# Altium footprint library L-SPE-1206_MC_USB.PcbLib: 1 footprints
Each footprint in its own frame and in the unit in brackets; x right, y up, seen from the top. Pads: shape width x height; smd on the part's side, far side on the other; paste and mask are expansions set on the pad; w line width, h text height; cw(c..) or ccw(c..) is an arc to the next point about the centre after c.
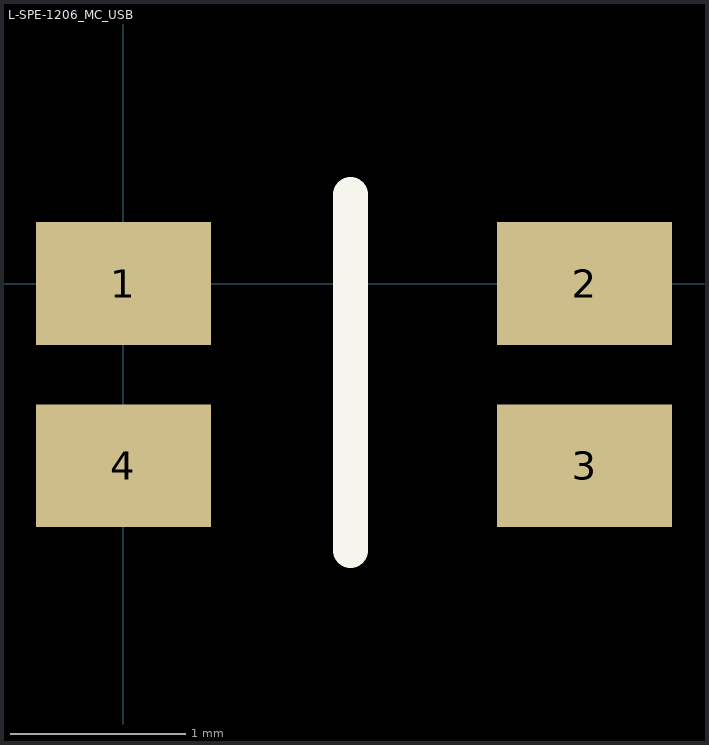
[diagram p0: the footprint, top view; thin cyan lines are the x and y axes]

## L-SPE-1206_MC_USB [mm]
pads (4):
  rect 1x0.7 smd: 1(0,0) 2(2.63,0) 3(2.63,-1.04) 4(0,-1.04)
Top Overlay:
  lines w0.2: 1.295,-1.524 1.295,0.508
3D body: height 1.92, standoff -0.01, extent -0.365,-1.372 2.955,0.348